# Altium schematic symbol library LTC2952.SchLib: 2 symbols
Pins are listed as number, name and electrical type; pins without a type are passive.

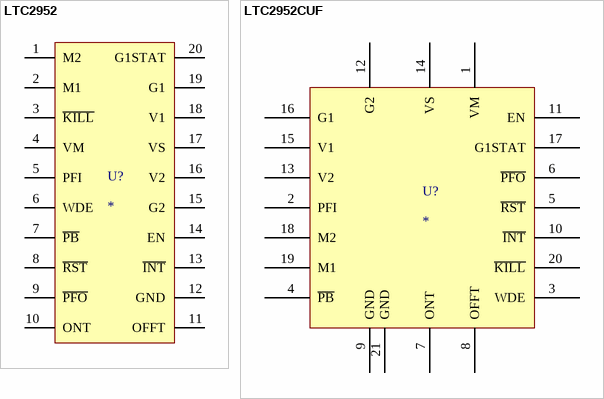
[diagram p0: symbols LTC2952 to LTC2952CUF]

## LTC2952
designator U?
Push Button PowerPath Controller with Supervisor; Manufacturer: Linear Technology; Part No.: LTC2952; Vendor: Linear; Price Est.: $4.21
footprint TSSOP20 (Shrink Small Outline; 20 Leads; Body Width 4.4 mm; Pitch 0.65 mm)
pins: 1 M2, 2 M1, 3 ~{KILL}, 4 VM, 5 PFI, 6 WDE, 7 ~{PB}, 8 ~{RST}, 9 ~{PFO}, 10 ONT, 11 OFFT, 12 GND, 13 ~{INT}, 14 EN, 15 G2, 16 V2, 17 VS, 18 V1, 19 G1, 20 G1STAT

## LTC2952CUF
designator U?
Push Button PowerPath Controller with Supervisor; Manufacturer: Linear Technology; Part No.: LTC2952CUF; Vendor: Linear; Price Est.: $4.21
footprint QFN20 4x4 Linear
pins: 1 VM, 2 PFI, 3 WDE, 4 ~{PB}, 5 ~{RST}, 6 ~{PFO}, 7 ONT, 8 OFFT, 9 GND, 10 ~{INT}, 11 EN, 12 G2, 13 V2, 14 VS, 15 V1, 16 G1, 17 G1STAT, 18 M2, 19 M1, 20 ~{KILL}, 21 GND